# Altium footprint library 744325550.PcbLib: 1 footprints
Each footprint in its own frame and in the unit in brackets; x right, y up, seen from the top. Pads: shape width x height; smd on the part's side, far side on the other; paste and mask are expansions set on the pad; w line width, h text height; cw(c..) or ccw(c..) is an arc to the next point about the centre after c.
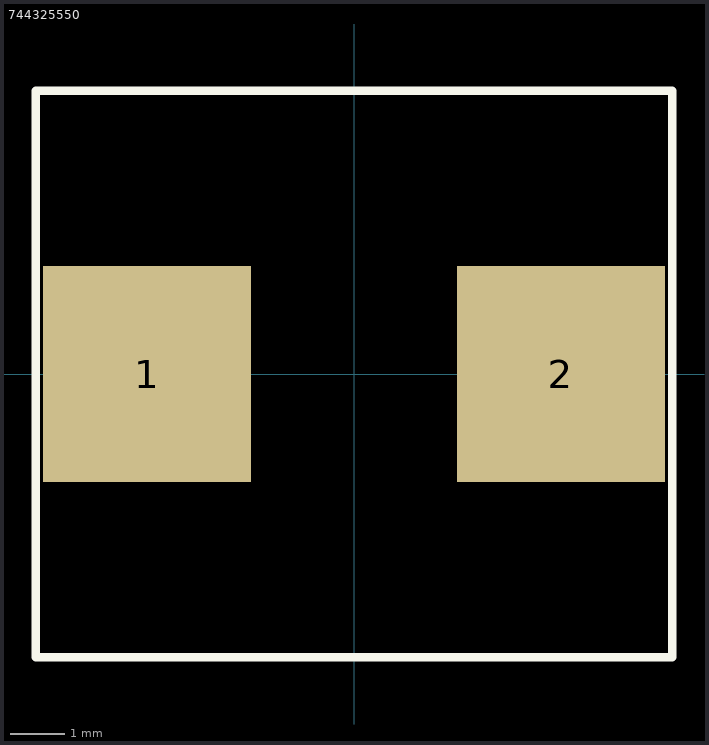
[diagram p0: the footprint, top view; thin cyan lines are the x and y axes]

## 744325550 [mm]
pads (2):
  rect 3.85x4 smd paste+0 mask+0: 1(-3.825,0) 2(3.825,0)
Top Overlay:
  lines w0.152: -5.88,-5.232 -5.88,5.232 5.88,5.232 5.88,-5.232 -5.88,-5.232
3D body "744325016_Download_STP_WE-HCI-1050_rev1.stp": height 5, standoff 0, extent -5.5,-5.1 5.5,5.1